# EAGLE library part DVI-D-R (library battery_plug)
CONNECTOR MiroCross(TM)-DVI i/0 plug and receptacle connector system (scart)
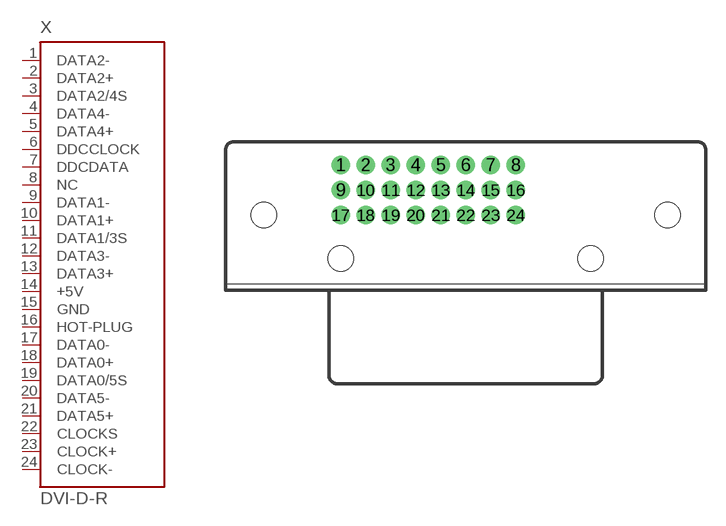
[diagram p2: symbol with the pads of DVI-D-R; footprint DVI-D-R]

Designator prefix X

## DVI-D-R  [DVI-D-R]
1  DATA2-  pas
2  DATA2+  pas
3  DATA2/4S  pas
4  DATA4-  pas
5  DATA4+  pas
6  DDCCLOCK  pas
7  DDCDATA  pas
8  NC  pas
9  DATA1-  pas
10  DATA1+  pas
11  DATA1/3S  pas
12  DATA3-  pas
13  DATA3+  pas
14  +5V  pwr
15  GND  pwr
16  HOT-PLUG  pas
17  DATA0-  pas
18  DATA0+  pas
19  DATA0/5S  pas
20  DATA5-  pas
21  DATA5+  pas
22  CLOCKS  pas
23  CLOCK+  pas
24  CLOCK-  pas

## Footprint DVI-D-R (pad centres in mm)
CONNECTOR MiroCross(TM)-DVI i/0 plug and receptacle connector system (scart)
drill 0.864 pad 1.397: 1 -9.525,6.985; 2 -7.62,6.985; 3 -5.715,6.985; 4 -3.81,6.985; 5 -1.905,6.985; 6 0,6.985; 7 1.905,6.985; 8 3.81,6.985; 9 -9.525,5.08; 10 -7.62,5.08; 11 -5.715,5.08; 12 -3.81,5.08; 13 -1.905,5.08; 14 0,5.08; 15 1.905,5.08; 16 3.81,5.08; 17 -9.525,3.175; 18 -7.62,3.175; 19 -5.715,3.175; 20 -3.81,3.175; 21 -1.905,3.175; 22 0,3.175; 23 1.905,3.175; 24 3.81,3.175
hole 1.93 at -15.367,3.175
hole 1.93 at 15.367,3.175
hole 1.93 at -9.525,-0.127
hole 1.93 at 9.525,-0.127